# EAGLE library part M6E-NANO (library ZHAW_BA)
UHF RFID READER Modul 859-930MHZ, Thingmagic, M6E-Nano Distrelec: Pt.Nr: Distrelec Bestellnummer LINK DigiKey: Pt.Nr: 1523-1009-2-ND https://www.digikey.ch/product-detail/de/thingmagic-a-jadak-brand/M6E-NANO/1523-1009-2-ND/5251712
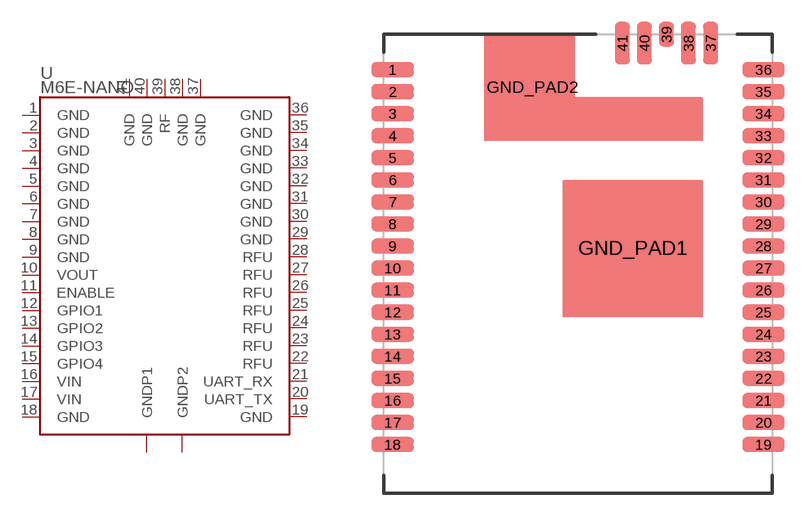
[diagram p14: symbol with the pads of M6E-NANO; footprint M6E-NANO]

Designator prefix U

## M6E-NANO  [M6E-NANO]
1  GND
2  GND
3  GND
4  GND
5  GND
6  GND
7  GND
8  GND
9  GND
10  VOUT
11  ENABLE
12  GPIO1
13  GPIO2
14  GPIO3
15  GPIO4
16  VIN
17  VIN
18  GND
19  GND
20  UART_TX
21  UART_RX
22  RFU
23  RFU
24  RFU
25  RFU
26  RFU
27  RFU
28  RFU
29  GND
30  GND
31  GND
32  GND
33  GND
34  GND
35  GND
36  GND
37  GND
38  GND
39  RF
40  GND
41  GND
GND_PAD1  GNDP1
GND_PAD2  GNDP2

## Footprint M6E-NANO (pad centres in mm)
smd 2.4 x 0.85: 1 -0.34,22.43; 2 -0.34,21.18; 3 -0.34,19.93; 4 -0.34,18.68; 5 -0.34,17.43; 6 -0.34,16.18; 7 -0.34,14.93; 8 -0.34,13.68; 9 -0.34,12.43; 10 -0.34,11.18; 11 -0.34,9.93; 12 -0.34,8.68; 13 -0.34,7.43; 14 -0.34,6.18; 15 -0.34,4.93; 16 -0.34,3.68; 17 -0.34,2.43; 18 -0.34,1.18; 19 20.66,1.18; 20 20.66,2.43; 21 20.66,3.68; 22 20.66,4.93; 23 20.66,6.18; 24 20.66,7.43; 25 20.66,8.68; 26 20.66,9.93; 27 20.66,11.18; 28 20.66,12.43; 29 20.66,13.68; 30 20.66,14.93; 31 20.66,16.18; 32 20.66,17.43; 33 20.66,18.68; 34 20.66,19.93; 35 20.66,21.18; 36 20.66,22.43
smd 0.85 x 2.4: 37 17.66,23.93; 38 16.41,23.93; 40 13.91,23.93; 41 12.66,23.93
smd 0.85 x 1.4: 39 15.16,24.43
smd 5 x 5: GND_PAD1 13.26,12.33
smd 4 x 4: GND_PAD2 7.56,21.43